# EAGLE library part 24LC16BT-E/SN (library 24LC16BT-E_SN)
16K I2C Serial EEPROM Check prices <https://pricing.snapeda.com/parts/24LC16BT-E/SN/Microchip/view-part?ref=eda>
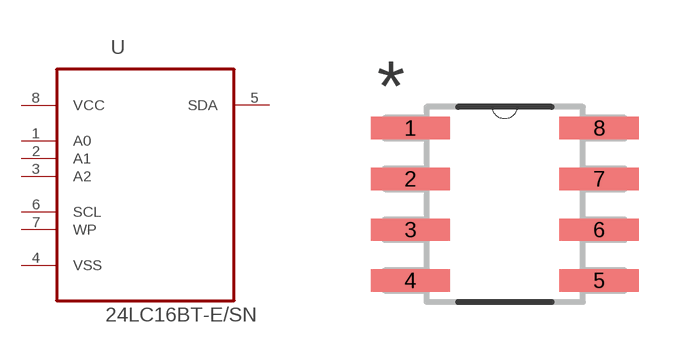
[diagram p0: symbol with the pads of SOIC127P600X175-8N; footprint SOIC127P600X175-8N]

Designator prefix -

## 24LC16BT-E/SN (Availability: In Stock; Description: EEPROM Memory IC 16Kb (2K x 8) I²C 400 kHz 900 ns 8-SOIC; MF: Microchip; MP: 24LC16BT-E/SN; Package: SOIC-8 Microchip; Price: None; Purchase-URL: https://pricing.snapeda.com/search/part/24LC16BT-E/SN/?ref=eda)  [SOIC127P600X175-8N]
1  A0  in
2  A1  in
3  A2  in
4  VSS  pas
5  SDA
6  SCL  in
7  WP  in
8  VCC  pwr

## Footprint SOIC127P600X175-8N (pad centres in mm)
smd 1.981 x 0.559: 1 -2.362,1.905; 2 -2.362,0.635; 3 -2.362,-0.635; 4 -2.362,-1.905; 5 2.362,-1.905; 6 2.362,-0.635; 7 2.362,0.635; 8 2.362,1.905